# Altium schematic symbol library mian2.SchLib: 22 symbols
Pins are listed as number, name and electrical type; pins without a type are passive.

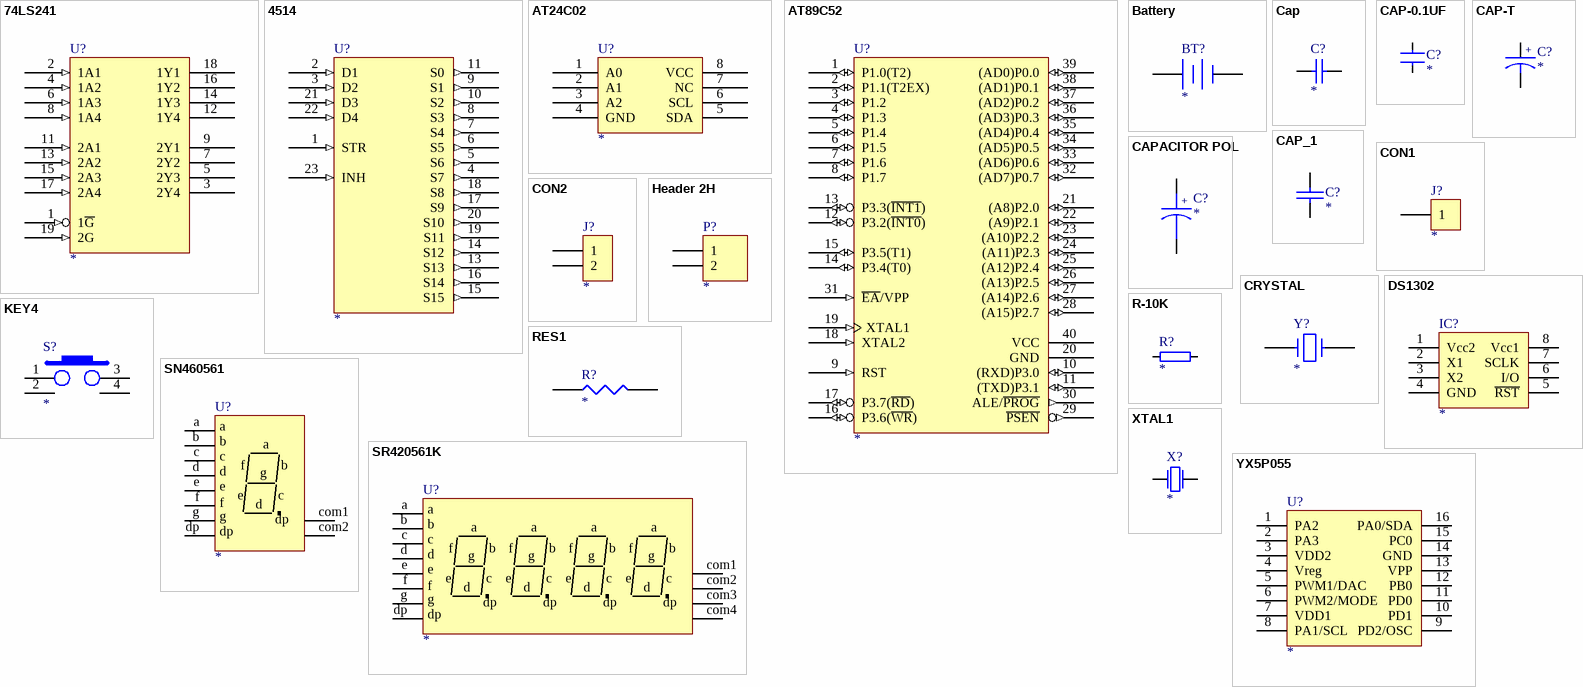
[diagram p0: symbols 74LS241 to YX5P055]

## 74LS241
designator U?
footprint DIP-20
footprint SOP241
pins: 1 1~{G} (in), 2 1A1 (in), 3 2Y4 (hiz), 4 1A2 (in), 5 2Y3 (hiz), 6 1A3 (in), 7 2Y2 (hiz), 8 1A4 (in), 9 2Y1 (hiz), 10 GND (power) hidden to GND, 11 2A1 (in), 12 1Y4 (hiz), 13 2A2 (in), 14 1Y3 (hiz), 15 2A3 (in), 16 1Y2 (hiz), 17 2A4 (in), 18 1Y1 (hiz), 19 2G (in), 20 VCC (power) hidden to VCC
2 alternate drawings of the same symbol

## 4514
designator U?
footprint DIP-24
footprint SOP4510
pins: 1 STR (in), 2 D1 (in), 3 D2 (in), 4 S7 (out), 5 S6 (out), 6 S5 (out), 7 S4 (out), 8 S3 (out), 9 S1 (out), 10 S2 (out), 11 S0 (out), 12 GND (power) hidden to GND, 13 S13 (out), 14 S12 (out), 15 S15 (out), 16 S14 (out), 17 S9 (out), 18 S8 (out), 19 S11 (out), 20 S10 (out), 21 D3 (in), 22 D4 (in), 23 INH (in), 24 VCC (power) hidden to VCC
2 alternate drawings of the same symbol

## AT24C02
designator U?
U?
footprint DIP-20
footprint SOIC8
footprint SOIC8 - 2
footprint DIP8
pins: 1 A0, 2 A1, 3 A2, 4 GND, 5 SDA, 6 SCL, 7 NC, 8 VCC
2 alternate drawings of the same symbol

## AT89C52
designator U?
8-Bit Microcontroller with 8K Flash ROM
footprint DIP-40
footprint DIP40
pins: 1 P1.0(T2) (io), 2 P1.1(T2EX) (io), 3 P1.2 (io), 4 P1.3 (io), 5 P1.4 (io), 6 P1.5 (io), 7 P1.6 (io), 8 P1.7 (io), 9 RST (in), 10 (RXD)P3.0 (io), 11 (TXD)P3.1 (io), 12 P3.2(~{INT0}) (io), 13 P3.3(~{INT1}) (io), 14 P3.4(T0) (io), 15 P3.5(T1) (io), 16 P3.6(~{WR}) (io), 17 P3.7(~{RD}) (io), 18 XTAL2 (in), 19 XTAL1 (in), 20 GND (power), 21 (A8)P2.0 (io), 22 (A9)P2.1 (io), 23 (A10)P2.2 (io), 24 (A11)P2.3 (io), 25 (A12)P2.4 (io), 26 (A13)P2.5 (io), 27 (A14)P2.6 (io), 28 (A15)P2.7 (io), 29 ~{PSEN} (out), 30 ALE/~{PROG} (out), 31 ~{EA}/VPP (in), 32 (AD7)P0.7 (io), 33 (AD6)P0.6 (io), 34 (AD5)P0.5 (io), 35 (AD4)P0.4 (io), 36 (AD3)P0.3 (io), 37 (AD2)P0.2 (io), 38 (AD1)P0.1 (io), 39 (AD0)P0.0 (io), 40 VCC (power)
2 alternate drawings of the same symbol

## Battery
designator BT?
Multicell Battery; Published: *; LatestRevisionDate: *; LatestRevisionNote: *; PackageReference: *; Publisher: *
footprint CR1220
footprint CR2032-2
pins: 1 +, 2 -
2 alternate drawings of the same symbol

## Cap
designator C?
Capacitor; Published: *; LatestRevisionDate: *; LatestRevisionNote: *; PackageReference: *; Publisher: *; Value: *
footprint 0805
footprint 0603
footprint 1608[0603]
footprint 0805C
pins: 1, 2
2 alternate drawings of the same symbol

## CAP-0.1UF
designator C?
SMD-CAP
footprint 0603C
footprint 0805C
footprint 1206C
pins: 1, 2
2 alternate drawings of the same symbol

## CAP-T
designator C?
钽电容
footprint 6032C
footprint 7343C
footprint 3528C
footprint 3216C
pins: 1, 2
2 alternate drawings of the same symbol
text: +

## CAP_1
designator C?
Capacitor
footprint 0805C
pins: 1, 2
2 alternate drawings of the same symbol

## CAPACITOR POL
designator C?
Capacitor
footprint 22U1
pins: 1, 2
2 alternate drawings of the same symbol
text: +

## CON1
designator J?
Connector
footprint GDK
pins: 1
2 alternate drawings of the same symbol

## CON2
designator J?
Connector
footprint TV-VOICE
pins: 1, 2
2 alternate drawings of the same symbol

## CRYSTAL
designator Y?
Crystal
footprint OSC2PR-1
pins: 1, 2
2 alternate drawings of the same symbol

## DS1302
designator IC?
footprint DIP8
footprint SOP8
footprint SOIC8
footprint SOIC8
pins: 1 Vcc2, 2 X1, 3 X2, 4 GND, 5 ~{RST}, 6 I/O, 7 SCLK, 8 Vcc1
2 alternate drawings of the same symbol

## Header 2H
designator P?
Header, 2-Pin, Right Angle; LatestRevisionDate: *; LatestRevisionNote: *; Publisher: *
footprint HDR1X2H
pins: 1, 2
2 alternate drawings of the same symbol

## KEY4
designator S?
footprint PUSH12
pins: 1, 2, 3, 4
2 alternate drawings of the same symbol

## R-10K
designator R?
resistor
footprint 0805R
footprint 0603R
footprint 1206R
pins: 1, 2
2 alternate drawings of the same symbol

## RES1
designator R?
footprint 0805R
pins: 1, 2
2 alternate drawings of the same symbol

## SN460561
designator U?
CP-SN460561K
footprint SN460561
footprint 3121B
pins: a, b, c, com1, com2, d, dp, e, f, g
2 alternate drawings of the same symbol

## SR420561K
designator U?
CP-SR420561K
footprint SR420561
footprint 5462B
pins: a, b, c, com1, com2, com3, com4, d, dp, e, f, g
2 alternate drawings of the same symbol

## XTAL1
designator X?
footprint X2
pins: 1 P1, 2 P2
2 alternate drawings of the same symbol

## YX5P055
designator U?
footprint DIP16
pins: 1 PA2, 2 PA3, 3 VDD2, 4 Vreg, 5 PWM1/DAC, 6 PWM2/MODE, 7 VDD1, 8 PA1/SCL, 9 PD2/OSC, 10 PD1, 11 PD0, 12 PB0, 13 VPP, 14 GND, 15 PC0 (power), 16 PA0/SDA (power)
2 alternate drawings of the same symbol